# Altium footprint library PJ050AH.PcbLib: 1 footprints
Each footprint in its own frame and in the unit in brackets; x right, y up, seen from the top. Pads: shape width x height; smd on the part's side, far side on the other; paste and mask are expansions set on the pad; w line width, h text height; cw(c..) or ccw(c..) is an arc to the next point about the centre after c.
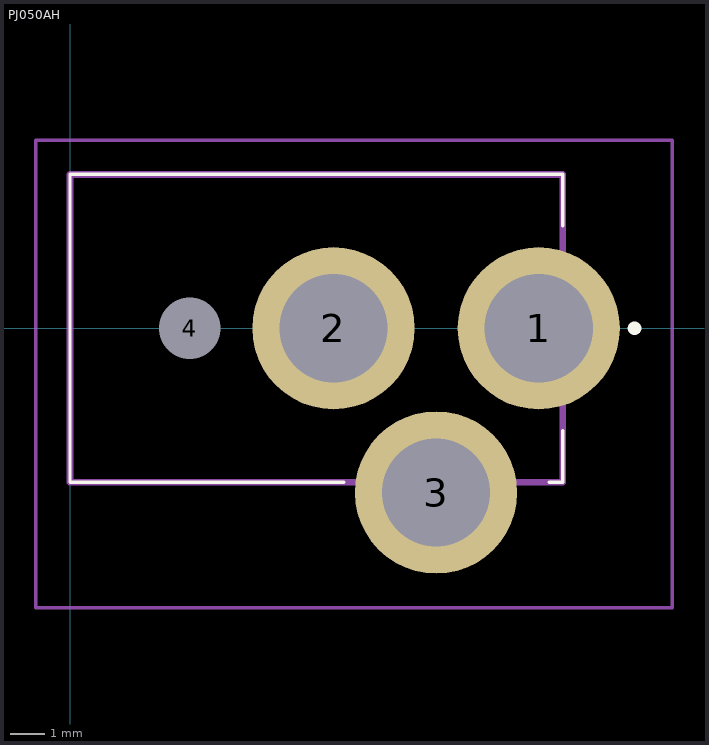
[diagram p0: the footprint, top view; thin cyan lines are the x and y axes]

## PJ050AH [mm]
pads (4):
  round 4.743 hole 3.162: 1(13.7,0) 2(7.7,0) 3(10.7,-4.8)
  round 0.9 hole 1.8 unplated: 4(3.5,0)
Top Overlay:
  lines w0.1: 8,-4.5 0,-4.5 0,4.5 14.4,4.5 14.4,3 ; 14,-4.5 14.4,-4.5 14.4,-3
  lines w0.2: 16.5,-0.1 ccw(c16.5,0) 16.5,0.1 ; 16.5,-0.1 16.5,-0.1 ; 16.5,-0.1 cw(c16.5,0) 16.5,0.1 ; 16.5,0.1 16.5,0.1
Mechanical 15:
  lines w0.2: 0,-4.5 14.4,-4.5 14.4,4.5 0,4.5 0,-4.5
Mechanical 20:
  lines w0.1: -1,-8.172 17.6,-8.172 17.6,5.5 -1,5.5 -1,-8.172